# EAGLE library part SEEDI-BT (library X893)
Serial port bluetooth module http://www.seeedstudio.com/depot/serial-port-bluetooth-module-masterslave-p-572.html?cPath=2
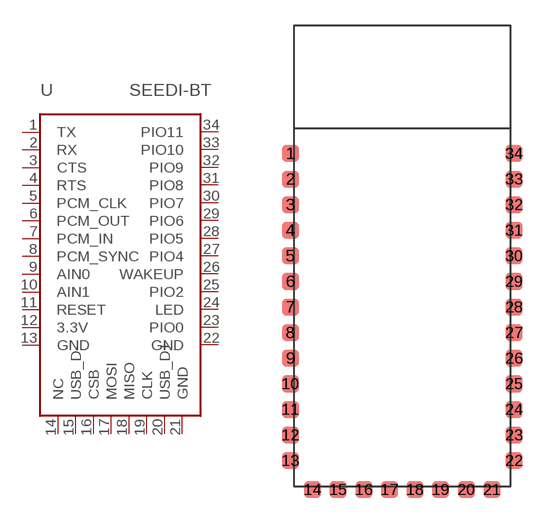
[diagram p92: symbol with the pads of SEEDI-BT; footprint SEEDI-BT]

Designator prefix U

## SEEDI-BT  [SEEDI-BT]
1  TX  out
2  RX  in
3  CTS  in
4  RTS  out
5  PCM_CLK
6  PCM_OUT  out
7  PCM_IN  in
8  PCM_SYNC
9  AIN0
10  AIN1
11  RESET  in
12  3.3V  pas
13  GND  sup
14  NC  nc
15  USB_D-
16  CSB  in
17  MOSI  in
18  MISO  out
19  CLK  in
20  USB_D+
21  GND  sup
22  GND  sup
23  PIO0
24  LED
25  PIO2
26  WAKEUP
27  PIO4
28  PIO5
29  PIO6
30  PIO7
31  PIO8
32  PIO9
33  PIO10
34  PIO11

## Footprint SEEDI-BT (pad centres in mm)
Serial port bluetooth module http://www.seeedstudio.com/depot/serial-port-bluetooth-module-masterslave-p-572.html?cPath=2
smd 1 x 1: 1 -6.55,6; 2 -6.55,4.5; 3 -6.55,3; 4 -6.55,1.5; 5 -6.55,0; 6 -6.55,-1.5; 7 -6.55,-3; 8 -6.55,-4.5; 9 -6.55,-6; 10 -6.55,-7.5; 11 -6.55,-9; 12 -6.55,-10.5; 13 -6.55,-12; 14 -5.25,-13.7; 15 -3.75,-13.7; 16 -2.25,-13.7; 17 -0.75,-13.7; 18 0.75,-13.7; 19 2.25,-13.7; 20 3.75,-13.7; 21 5.25,-13.7; 22 6.55,-12; 23 6.55,-10.5; 24 6.55,-9; 25 6.55,-7.5; 26 6.55,-6; 27 6.55,-4.5; 28 6.55,-3; 29 6.55,-1.5; 30 6.55,0; 31 6.55,1.5; 32 6.55,3; 33 6.55,4.5; 34 6.55,6